# EAGLE library part HD-AB5?RD (library #PaJa_displeje)
LED displej - SA - 38 mm - RG
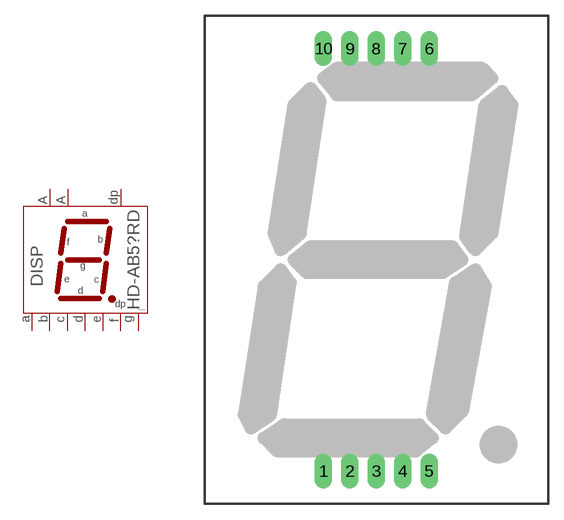
[diagram p9: symbol with the pads of HD-AB; footprint HD-AB]

Designator prefix DISP

## HD-AB5RD  [HD-AB]
1  CA1  pas
2  E  pas
3  D  pas
4  C  pas
5  CA2  pas
6  B  pas
7  A  pas
8  DP  pas
9  F  pas
10  G  pas

## Footprint HD-AB (pad centres in mm)
7-segmentovy displej - spol. anoda vyska znaku 38mm
drill 0.813 pad 1.676 long: 1 0,0; 2 2.54,0; 3 5.08,0; 4 7.62,0; 5 10.16,0; 6 10.16,40.64; 7 7.62,40.64; 8 5.08,40.64; 9 2.54,40.64; 10 0,40.64